# Altium schematic symbol library AG.Passive.SchLib: 6 symbols
Pins are listed as number, name and electrical type; pins without a type are passive.

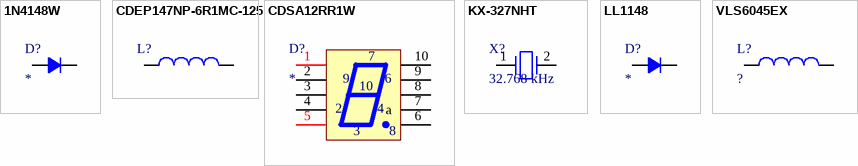
[diagram p0: symbols 1N4148W to VLS6045EX]

## 1N4148W
designator D?
DIODE GEN PURP 100V 300MA SOD123; Similar Part: BAV16W; Manufacturer: Diodes Incorporated; Manufacturer Product Number: 1N4148W-7-F; Supplier Part No: 1N4148W-FDICT-ND; Supplier URL: https://www.digikey.com/en/products/detail/diodes-incorporated/1N4148W-7-F/814371; Mounting Technology: SMT; Package: SOD-123
pins: A, C
1 alternate drawing of the same symbol

## CDEP147NP-6R1MC-125
designator L?, comment 6.1 uH  (value not drawn)
FIXED IND 6.1UH 12.5A 6.03 MOHM; Manufacturer: Sumida America Components Inc.; Product Number: CDEP147NP-6R1MC-125; Value: 6.1 uH; Mounting Technology: SMT; Category: Inductor; Supplier Part No: CDEP147NP-6R1MC-125-ND; Supplier Link: https://www.digikey.com/en/products/detail/sumida-america-components-inc/CDEP147NP-6R1MC-125/4038408; Supplier: DigiKey; Package: Non-Standard
footprint CDEP147 (SMD Power Inductor 14.9x14.9x8-mm Reflow)
pins: 1, 2

## CDSA12RR1W
designator D?
DISPLAY 7SEG 1.20" SGL RED 10DIP; Supplier: DigiKey; Supplier Link: https://www.digikey.com/en/products/detail/chromeled/CDSA12RR1W/13166753; Supplier Part No: 2661-CDSA12RR1W-ND; Mounting Technology: SMT; Package: DIP-10
footprint CDSX12 (DISPLAY 7SEG 1.20" SGL RED DIP-10)
pins: 1 A, 2 e, 3 d, 4 c, 5 A, 6 b, 7 a, 8 dp, 9 f, 10 g

## KX-327NHT
designator X?, comment 32.768 kHz
Crystal Resonator (2 Leads); Manufacturer: Geyer; Manufacturer Part No: KX-327NHT; Load Capacitance: 12.5 pF; Tolerance: 20 ppm; Mounting Technology: SMT; Alternative Supplier: Belchip; Alternative Supplier Link: https://belchip.by/product/?selected_product=33387; Alternative Supplier Part No: 33387; Category: Crystal; Value: 32.768 kHz
footprint XTAL_3215 (Crystal SMD 3.2x1.5mm 2-Flat Leads)
pins: 1, 2
1 alternate drawing of the same symbol

## LL1148
designator D?
DIODE GEN PURP 100V 200MA SOD80; Mounting Technology: SMT; Package: DO-213AC, MINI-MELF, SOD-80
footprint D_SOD-80 (MiniMELF (SOD-80) Diode)
pins: A, C
1 alternate drawing of the same symbol

## VLS6045EX
designator L?, comment ?
FIXED IND; Manufacturer: TDK; Mounting Technology: SMT; Value: ?
footprint TDK_VLS6045EX (TDK VLS6045EX Series Fixed Inductor SMD 6.00x6.30mm)
pins: 1, 2